# Altium footprint library CAP-TEMP.PcbLib: 1 footprints
Each footprint in its own frame and in the unit in brackets; x right, y up, seen from the top. Pads: shape width x height; smd on the part's side, far side on the other; paste and mask are expansions set on the pad; w line width, h text height; cw(c..) or ccw(c..) is an arc to the next point about the centre after c.
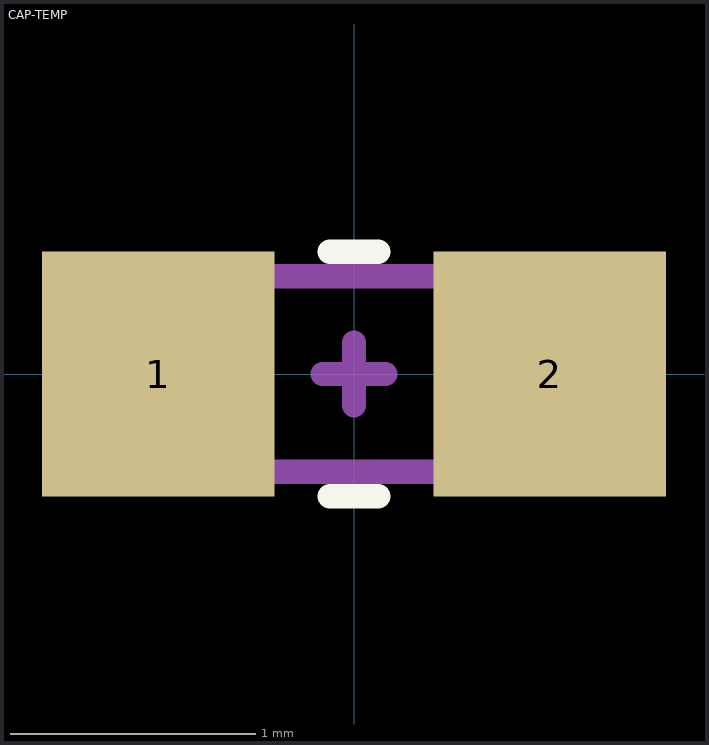
[diagram p0: the footprint, top view; thin cyan lines are the x and y axes]

## CAP-TEMP [mm]
pads (2):
  rect 0.95x1 smd mask+0: 1(-0.8,0) 2(0.8,0)
Top Overlay:
  lines w0.1: -0.1,-0.5 0.1,-0.5 ; -0.1,0.5 0.1,0.5
Mechanical 13:
  lines w0.1: -0.8,-0.4 0.8,-0.4 0.8,0.4 -0.8,0.4 -0.8,-0.4
Mechanical 15:
  lines w0.1: -0.127,0 0.127,0 ; 0,-0.127 0,0.127
3D body "CAP0603.stp": height 0.86, standoff 0, extent -0.8,-0.405 0.8,0.405